# Altium footprint library DF13-5P.PcbLib: 1 footprints
Each footprint in its own frame and in the unit in brackets; x right, y up, seen from the top. Pads: shape width x height; smd on the part's side, far side on the other; paste and mask are expansions set on the pad; w line width, h text height; cw(c..) or ccw(c..) is an arc to the next point about the centre after c.
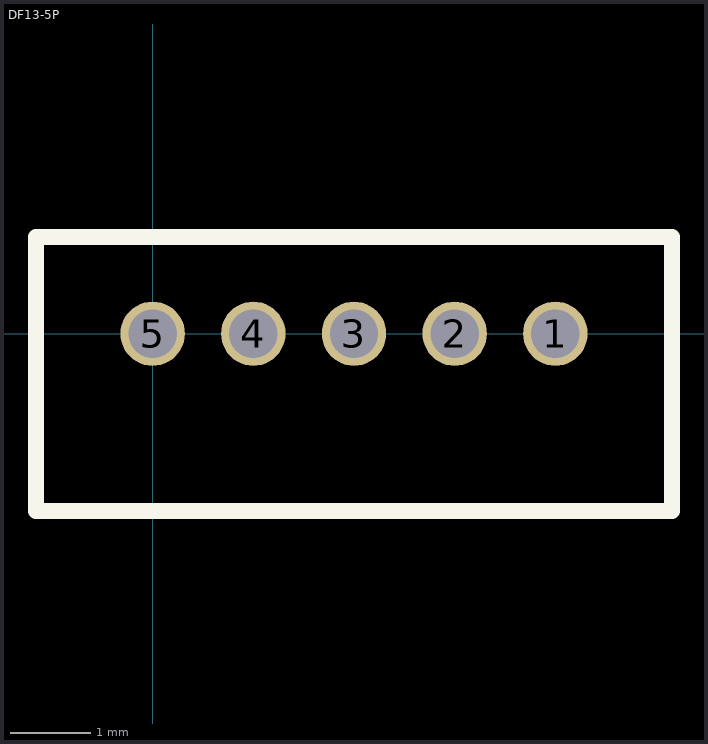
[diagram p0: the footprint, top view; thin cyan lines are the x and y axes]

## DF13-5P [mm] "5 Pin DF13 through hole"
height 4.3
pads (5):
  round 0.8 hole 0.6: 1(5,0) 2(3.75,0) 3(2.5,0) 4(1.25,0) 5(0,0)
Top Overlay:
  lines w0.2: -1.45,-2.2 6.45,-2.2 6.45,1.2 -1.45,1.2 -1.45,-2.2